# EAGLE library part ADXR (library paparazzi3)
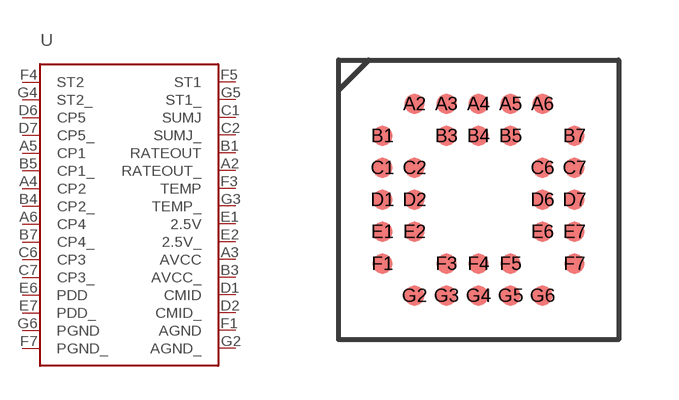
[diagram p12: symbol with the pads of BC-32; footprint BC-32]

Designator prefix -

## ADXR  [BC-32]
A2  RATEOUT_
A3  AVCC
A4  CP2
A5  CP1
A6  CP4
B1  RATEOUT
B3  AVCC_
B4  CP2_
B5  CP1_
B7  CP4_
C1  SUMJ
C2  SUMJ_
C6  CP3
C7  CP3_
D1  CMID
D2  CMID_
D6  CP5
D7  CP5_
E1  2.5V
E2  2.5V_
E6  PDD
E7  PDD_
F1  AGND
F3  TEMP
F4  ST2
F5  ST1
F7  PGND_
G2  AGND_
G3  TEMP_
G4  ST2_
G5  ST1_
G6  PGND

## Footprint BC-32 (pad centres in mm)
smd 0.5 x 0.5: A2 -1.6,2.4; A3 -0.8,2.4; A4 0,2.4; A5 0.8,2.4; A6 1.6,2.4; B1 -2.4,1.6; B3 -0.8,1.6; B4 0,1.6; B5 0.8,1.6; B7 2.4,1.6; C1 -2.4,0.8; C2 -1.6,0.8; C6 1.6,0.8; C7 2.4,0.8; D1 -2.4,0; D2 -1.6,0; D6 1.6,0; D7 2.4,0; E1 -2.4,-0.8; E2 -1.6,-0.8; E6 1.6,-0.8; E7 2.4,-0.8; F1 -2.4,-1.6; F3 -0.8,-1.6; F4 0,-1.6; F5 0.8,-1.6; F7 2.4,-1.6; G2 -1.6,-2.4; G3 -0.8,-2.4; G4 0,-2.4; G5 0.8,-2.4; G6 1.6,-2.4